# Altium schematic symbol library SparkFun-Passives.SCHLIB: 32 symbols
Pins are listed as number, name and electrical type; pins without a type are passive.

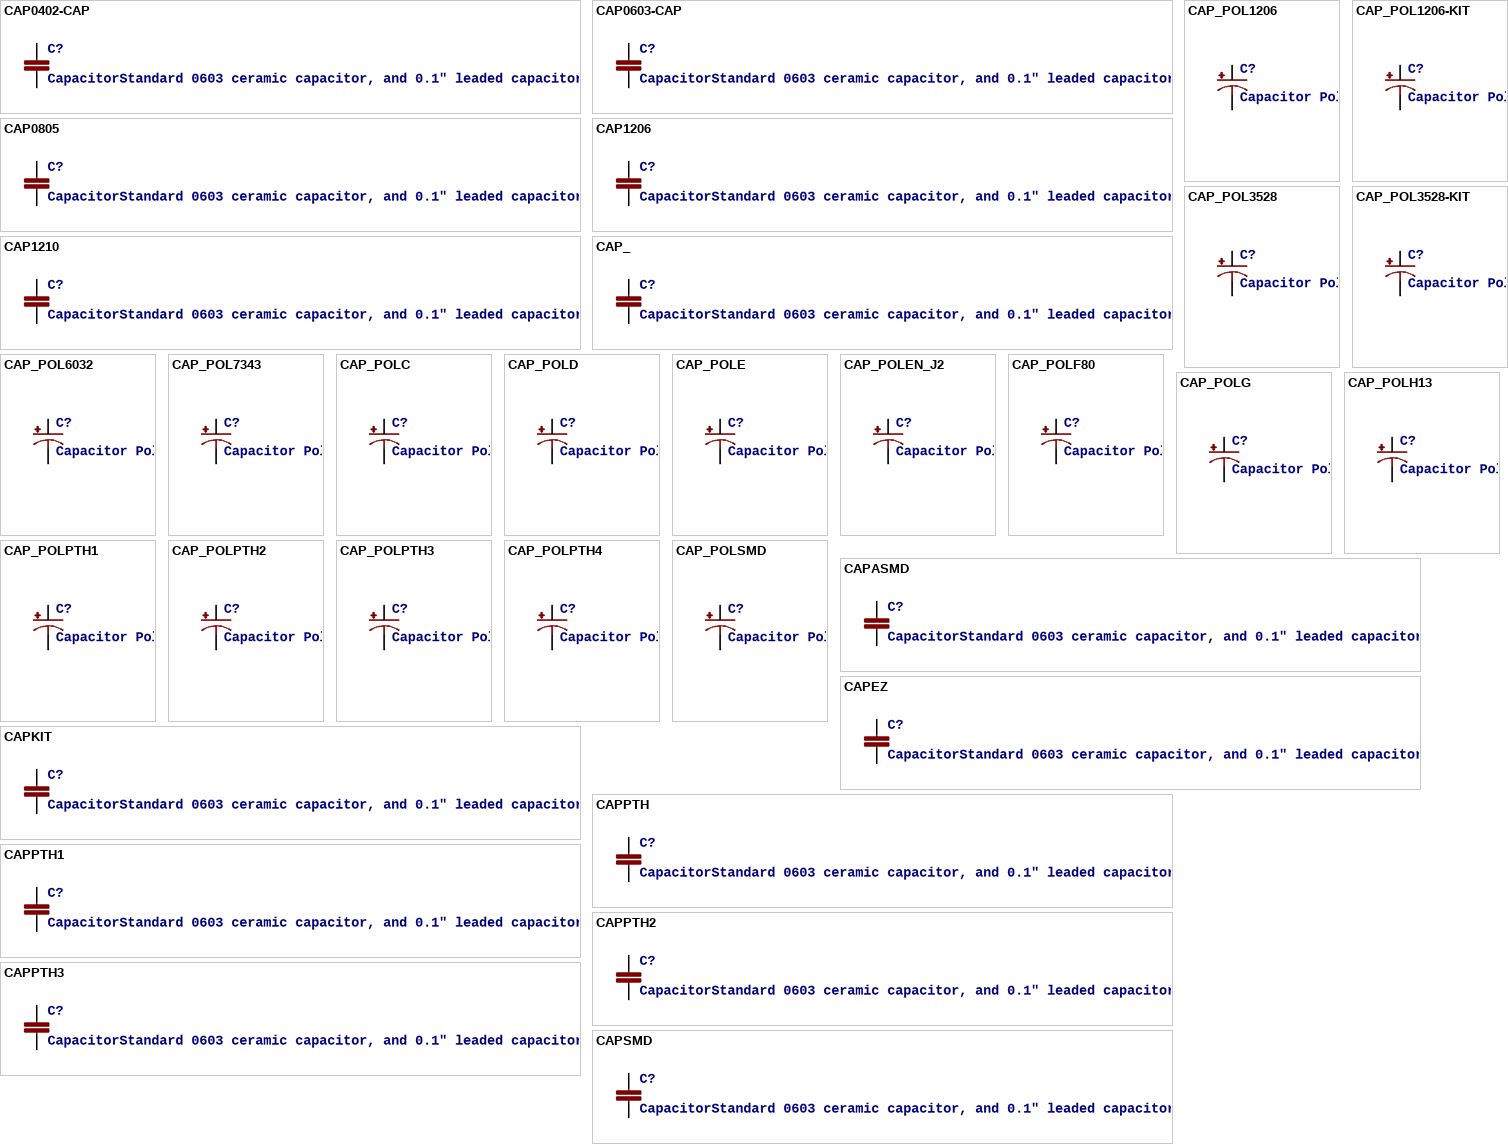
[diagram p0: symbols CAP0402-CAP to CAPSMD]

## CAP0402-CAP
designator C?, comment CapacitorStandard 0603 ceramic capacitor, and 0.1" leaded capacitor.
footprint 0402-CAP
pins: 1, 2

## CAP0603-CAP
designator C?, comment CapacitorStandard 0603 ceramic capacitor, and 0.1" leaded capacitor.
footprint 0603-CAP
pins: 1, 2

## CAP0805
designator C?, comment CapacitorStandard 0603 ceramic capacitor, and 0.1" leaded capacitor.
footprint 0805
pins: 1, 2

## CAP1206
designator C?, comment CapacitorStandard 0603 ceramic capacitor, and 0.1" leaded capacitor.
footprint 1206
pins: 1, 2

## CAP1210
designator C?, comment CapacitorStandard 0603 ceramic capacitor, and 0.1" leaded capacitor.
footprint 1210
pins: 1, 2

## CAP_
designator C?, comment CapacitorStandard 0603 ceramic capacitor, and 0.1" leaded capacitor.
footprint AXIAL-5MM
pins: P$1 1, P$2 2

## CAP_POL1206
designator C?, comment Capacitor PolarizedThese are standard SMD and PTH capacitors. Normally 10uF, 47uF, and 100uF in electrolytic and tantalum varieties. Always verify the external diameter of the through hole cap, it varies with capacity, voltage, and manufacturer. The EIA devices should be standard.
footprint EIA3216
pins: A +, C -

## CAP_POL1206-KIT
designator C?, comment Capacitor PolarizedThese are standard SMD and PTH capacitors. Normally 10uF, 47uF, and 100uF in electrolytic and tantalum varieties. Always verify the external diameter of the through hole cap, it varies with capacity, voltage, and manufacturer. The EIA devices should be standard.
footprint EIA3216-KIT
pins: A +, C -

## CAP_POL3528
designator C?, comment Capacitor PolarizedThese are standard SMD and PTH capacitors. Normally 10uF, 47uF, and 100uF in electrolytic and tantalum varieties. Always verify the external diameter of the through hole cap, it varies with capacity, voltage, and manufacturer. The EIA devices should be standard.
footprint EIA3528
pins: A +, C -

## CAP_POL3528-KIT
designator C?, comment Capacitor PolarizedThese are standard SMD and PTH capacitors. Normally 10uF, 47uF, and 100uF in electrolytic and tantalum varieties. Always verify the external diameter of the through hole cap, it varies with capacity, voltage, and manufacturer. The EIA devices should be standard.
footprint EIA3528-KIT
pins: A +, C -

## CAP_POL6032
designator C?, comment Capacitor PolarizedThese are standard SMD and PTH capacitors. Normally 10uF, 47uF, and 100uF in electrolytic and tantalum varieties. Always verify the external diameter of the through hole cap, it varies with capacity, voltage, and manufacturer. The EIA devices should be standard.
footprint EIA6032
pins: P$1 +, P$2 -

## CAP_POL7343
designator C?, comment Capacitor PolarizedThese are standard SMD and PTH capacitors. Normally 10uF, 47uF, and 100uF in electrolytic and tantalum varieties. Always verify the external diameter of the through hole cap, it varies with capacity, voltage, and manufacturer. The EIA devices should be standard.
footprint EIA7343
pins: A +, C -

## CAP_POLC
designator C?, comment Capacitor PolarizedThese are standard SMD and PTH capacitors. Normally 10uF, 47uF, and 100uF in electrolytic and tantalum varieties. Always verify the external diameter of the through hole cap, it varies with capacity, voltage, and manufacturer. The EIA devices should be standard.
footprint PANASONIC_C
pins: +, -

## CAP_POLD
designator C?, comment Capacitor PolarizedThese are standard SMD and PTH capacitors. Normally 10uF, 47uF, and 100uF in electrolytic and tantalum varieties. Always verify the external diameter of the through hole cap, it varies with capacity, voltage, and manufacturer. The EIA devices should be standard.
footprint PANASONIC_D
pins: +, -

## CAP_POLE
designator C?, comment Capacitor PolarizedThese are standard SMD and PTH capacitors. Normally 10uF, 47uF, and 100uF in electrolytic and tantalum varieties. Always verify the external diameter of the through hole cap, it varies with capacity, voltage, and manufacturer. The EIA devices should be standard.
footprint PANASONIC_E
pins: +, -

## CAP_POLEN_J2
designator C?, comment Capacitor PolarizedThese are standard SMD and PTH capacitors. Normally 10uF, 47uF, and 100uF in electrolytic and tantalum varieties. Always verify the external diameter of the through hole cap, it varies with capacity, voltage, and manufacturer. The EIA devices should be standard.
footprint EN_J2
pins: +, -

## CAP_POLF80
designator C?, comment Capacitor PolarizedThese are standard SMD and PTH capacitors. Normally 10uF, 47uF, and 100uF in electrolytic and tantalum varieties. Always verify the external diameter of the through hole cap, it varies with capacity, voltage, and manufacturer. The EIA devices should be standard.
footprint NIPPON_F80
pins: +, -

## CAP_POLG
designator C?, comment Capacitor PolarizedThese are standard SMD and PTH capacitors. Normally 10uF, 47uF, and 100uF in electrolytic and tantalum varieties. Always verify the external diameter of the through hole cap, it varies with capacity, voltage, and manufacturer. The EIA devices should be standard.
footprint PANASONIC_G
pins: +, -

## CAP_POLH13
designator C?, comment Capacitor PolarizedThese are standard SMD and PTH capacitors. Normally 10uF, 47uF, and 100uF in electrolytic and tantalum varieties. Always verify the external diameter of the through hole cap, it varies with capacity, voltage, and manufacturer. The EIA devices should be standard.
footprint PANASONIC_H13
pins: +, -

## CAP_POLPTH1
designator C?, comment Capacitor PolarizedThese are standard SMD and PTH capacitors. Normally 10uF, 47uF, and 100uF in electrolytic and tantalum varieties. Always verify the external diameter of the through hole cap, it varies with capacity, voltage, and manufacturer. The EIA devices should be standard.
footprint CPOL-RADIAL-100UF-25V
pins: 1 +, 2 -

## CAP_POLPTH2
designator C?, comment Capacitor PolarizedThese are standard SMD and PTH capacitors. Normally 10uF, 47uF, and 100uF in electrolytic and tantalum varieties. Always verify the external diameter of the through hole cap, it varies with capacity, voltage, and manufacturer. The EIA devices should be standard.
footprint CPOL-RADIAL-10UF-25V
pins: 1 +, 2 -

## CAP_POLPTH3
designator C?, comment Capacitor PolarizedThese are standard SMD and PTH capacitors. Normally 10uF, 47uF, and 100uF in electrolytic and tantalum varieties. Always verify the external diameter of the through hole cap, it varies with capacity, voltage, and manufacturer. The EIA devices should be standard.
footprint CPOL-RADIAL-1000UF-63V
pins: 1 +, 2 -

## CAP_POLPTH4
designator C?, comment Capacitor PolarizedThese are standard SMD and PTH capacitors. Normally 10uF, 47uF, and 100uF in electrolytic and tantalum varieties. Always verify the external diameter of the through hole cap, it varies with capacity, voltage, and manufacturer. The EIA devices should be standard.
footprint CPOL-RADIAL-1000UF-25V
pins: 1 +, 2 -

## CAP_POLSMD
designator C?, comment Capacitor PolarizedThese are standard SMD and PTH capacitors. Normally 10uF, 47uF, and 100uF in electrolytic and tantalum varieties. Always verify the external diameter of the through hole cap, it varies with capacity, voltage, and manufacturer. The EIA devices should be standard.
footprint VISHAY_C
pins: +, -

## CAPASMD
designator C?, comment CapacitorStandard 0603 ceramic capacitor, and 0.1" leaded capacitor.
footprint CTZ3
pins: + 1, - 2

## CAPEZ
designator C?, comment CapacitorStandard 0603 ceramic capacitor, and 0.1" leaded capacitor.
footprint CAP-PTH-SMALLEZ
pins: 1, 2

## CAPKIT
designator C?, comment CapacitorStandard 0603 ceramic capacitor, and 0.1" leaded capacitor.
footprint CAP-PTH-SMALL-KIT
pins: 1, 2

## CAPPTH
designator C?, comment CapacitorStandard 0603 ceramic capacitor, and 0.1" leaded capacitor.
footprint CAP-PTH-SMALL
pins: 1, 2

## CAPPTH1
designator C?, comment CapacitorStandard 0603 ceramic capacitor, and 0.1" leaded capacitor.
footprint CAP-PTH-5MM
pins: 1, 2

## CAPPTH2
designator C?, comment CapacitorStandard 0603 ceramic capacitor, and 0.1" leaded capacitor.
footprint CAP-PTH-SMALL2
pins: 1, 2

## CAPPTH3
designator C?, comment CapacitorStandard 0603 ceramic capacitor, and 0.1" leaded capacitor.
footprint CAP-PTH-LARGE
pins: 1, 2

## CAPSMD
designator C?, comment CapacitorStandard 0603 ceramic capacitor, and 0.1" leaded capacitor.
footprint GRM43D
pins: A 1, C 2